# EAGLE library part LOGIC,D-FLIPFLOP,DUAL (library QuantumOptics)
Classic dual D-type flip-flop, such as CD4013, http://www.fairchildsemi.com/ds/CD/CD4013BC.pdf
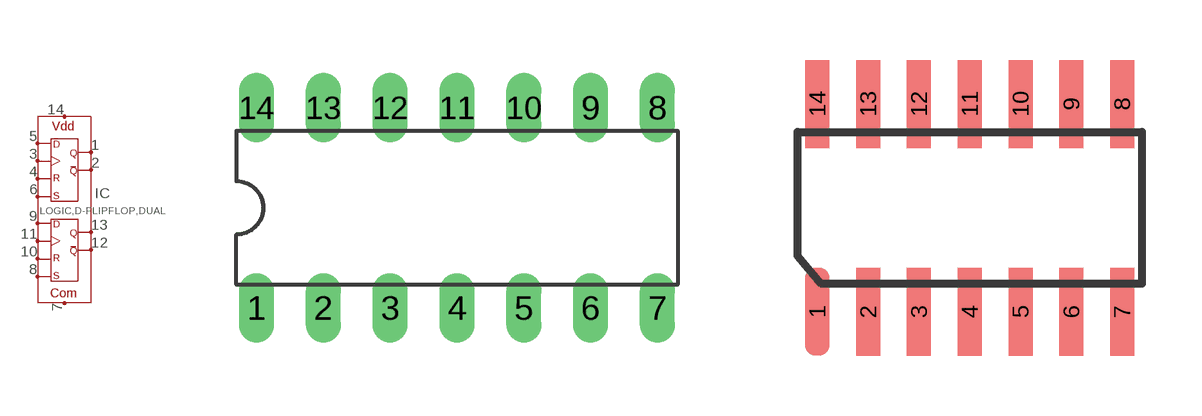
[diagram p126: symbol with the pads of DIL14; footprints DIL14, SOIC-14]

Designator prefix IC

## LOGIC,D-FLIPFLOP,DUAL-DIP14  [DIL14]
1  Q-A  out
2  ~Q-A  out
3  CLK-A  in
4  R-A  in
5  D-A  in
6  S-A  in
7  COM  pas
8  S-B  in
9  D-B  in
10  R-B  in
11  CLK-B  in
12  ~Q-B  out
13  Q-B  out
14  VDD  pas

## LOGIC,D-FLIPFLOP,DUAL-SOIC14  [SOIC-14]
Pads as for DIL14

## Footprint DIL14 (pad centres in mm)
Dual In Line Package
drill 0.813 long: 1 -7.62,-3.81; 2 -5.08,-3.81; 3 -2.54,-3.81; 4 0,-3.81; 5 2.54,-3.81; 6 5.08,-3.81; 7 7.62,-3.81; 8 7.62,3.81; 9 5.08,3.81; 10 2.54,3.81; 11 0,3.81; 12 -2.54,3.81; 13 -5.08,3.81; 14 -7.62,3.81

## Footprint SOIC-14 (pad centres in mm)
Small Outline Package 14
smd 0.6 x 2.2: 1 -3.81,-2.6; 2 -2.54,-2.6; 3 -1.27,-2.6; 4 0,-2.6; 5 1.27,-2.6; 6 2.54,-2.6; 7 3.81,-2.6; 8 3.81,2.6; 9 2.54,2.6; 10 1.27,2.6; 11 0,2.6; 12 -1.27,2.6; 13 -2.54,2.6; 14 -3.81,2.6